# Altium schematic symbol library ST7735.SchLib: 5 symbols
Pins are listed as number, name and electrical type; pins without a type are passive.

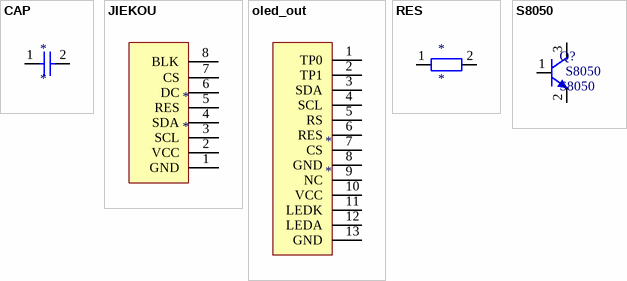
[diagram p0: symbols CAP to S8050]

## CAP
designator *
footprint CAP (Footprint not found)
pins: 1, 2

## JIEKOU
designator *
footprint JIEKOU
pins: 1 GND, 2 VCC, 3 SCL, 4 SDA, 5 RES, 6 DC, 7 CS, 8 BLK

## oled_out
designator *
footprint oled_out (Footprint not found)
pins: 1 TP0, 2 TP1, 3 SDA, 4 SCL, 5 RS, 6 RES, 7 CS, 8 GND, 9 NC, 10 VCC, 11 LEDK, 12 LEDA, 13 GND

## RES
designator *
footprint RES (Footprint not found)
pins: 1, 2

## S8050
designator Q?
footprint S8050
pins: 1, 2, 3